# EAGLE library part HCPL0600 (library optodevices)
HEWLETT PACKARD OPTO COUPLER
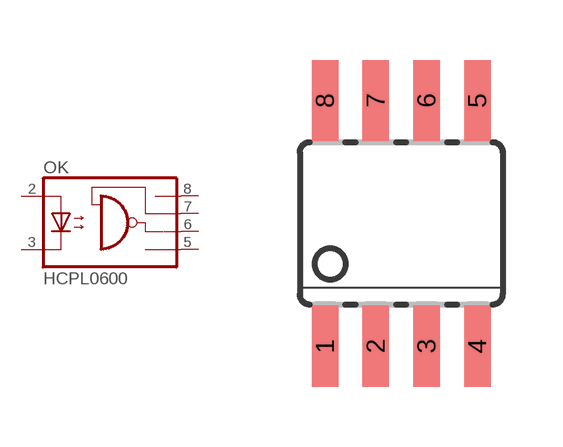
[diagram p33: symbol with the pads of SOIC08; footprint SOIC08]

Designator prefix OK

## HCPL0600  [SOIC08]
2  A  pas
3  C  pas
5  GND  pas
6  VO  pas
7  VE  pas
8  VCC  pas

## Footprint SOIC08 (pad centres in mm)
Small Outline Package
smd 0.66 x 2.032: 1 -1.905,-3.073; 2 -0.635,-3.073; 3 0.635,-3.073; 4 1.905,-3.073; 5 1.905,3.073; 6 0.635,3.073; 7 -0.635,3.073; 8 -1.905,3.073